# Altium schematic symbol library Schlib1.SchLib: 16 symbols
Pins are listed as number, name and electrical type; pins without a type are passive.

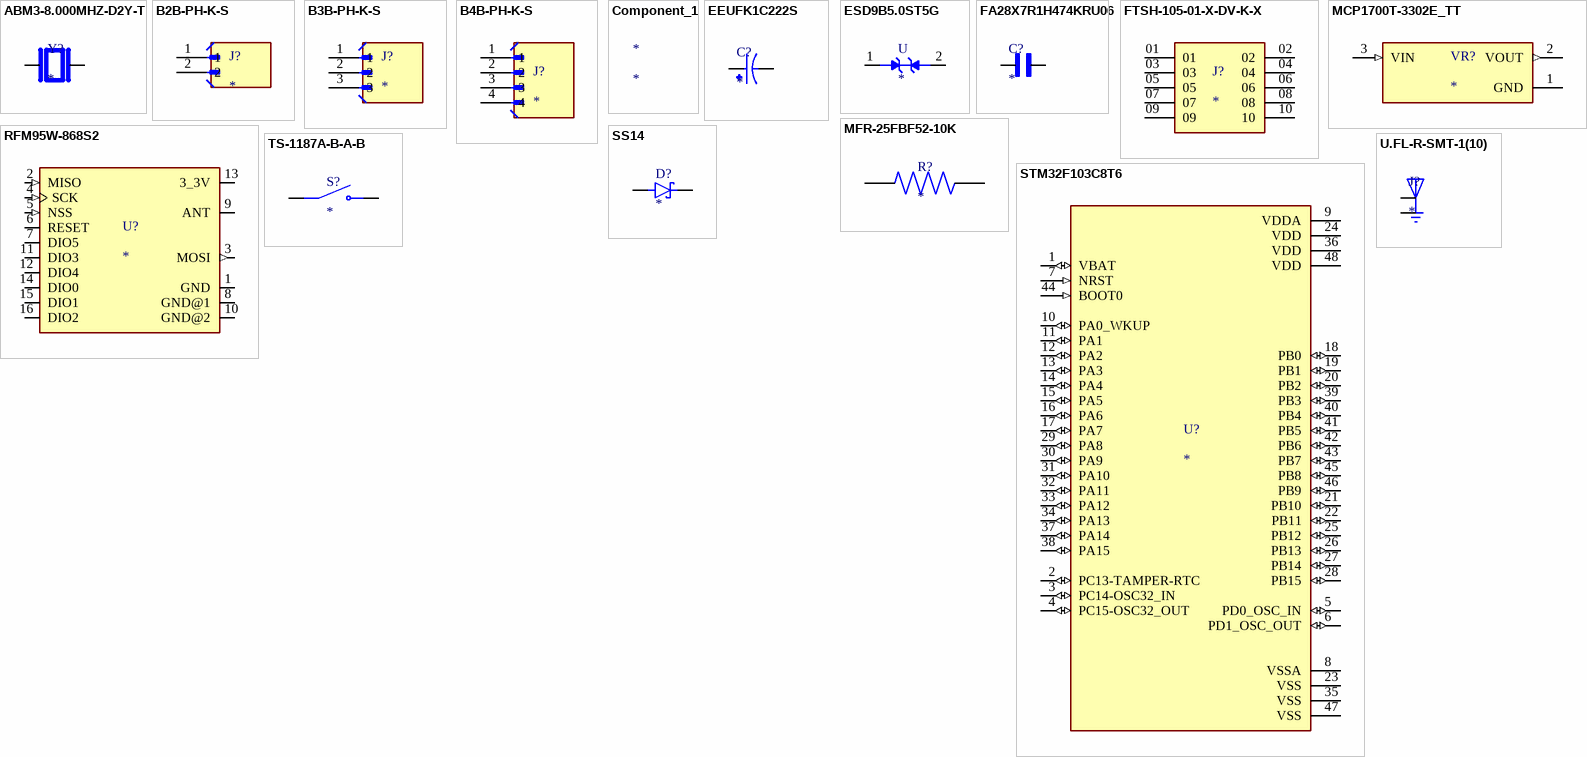
[diagram p0: symbols ABM3-8.000MHZ-D2Y-T to U.FL-R-SMT-1(10)]

## ABM3-8.000MHZ-D2Y-T
designator Y?
8 MHz Â±20ppm Crystal 18pF 140 Ohms 2-SMD, No Lead; MP: ABM3-8.000MHZ-D2Y-T; MF: Abracon; Purchase-URL: https://pricing.snapeda.com/search/part/ABM3-8.000MHZ-D2Y-T/?ref=eda; SnapEDA_Link: https://www.snapeda.com/parts/ABM3-8.000MHZ-D2Y-T/Abracon+LLC/view-part/?ref=snap; Value: *; Package: SMD-2 Abracon; Price: None; Availability: In Stock; Check_prices: https://www.snapeda.com/parts/ABM3-8.000MHZ-D2Y-T/Abracon+LLC/view-part/?ref=eda
footprint XTAL_ABM3-8.000MHZ-D2Y-T
pins: 1, 2

## B2B-PH-K-S
designator J?
Connector Header Through Hole 2 position 0.079 (2.00mm); MF: JST Sales America Inc.; MP: B2B-PH-K-S; SnapEDA_Link: https://www.snapeda.com/parts/B2B-PH-K-S/JST/view-part/?ref=snap; Package: None; Value: *; Check_prices: https://www.snapeda.com/parts/B2B-PH-K-S/JST/view-part/?ref=eda
footprint JST_B2B-PH-K-S
pins: 1, 2

## B3B-PH-K-S
designator J?
MF: {'manufacturer': u'JST Sales America Inc.'}; MP: B3B-PH-K-S; Package: None; Price: None; Value: *; Availability: Unavailable
footprint JST_B3B-PH-K-S
pins: 1, 2, 3

## B4B-PH-K-S
designator J?
MF: {'manufacturer': u'JST Sales America Inc.'}; MP: B4B-PH-K-S; Package: None; Price: None; Value: *; Availability: Unavailable
footprint JST_B4B-PH-K-S
pins: 1, 2, 3, 4

## Component_1
designator *

## EEUFK1C222S
designator C?
Aluminum Electrolytic Capacitors - Radial Leaded; MF: Panasonic; MP: EEU-FK1C222S; Package: RADIAL-2 Panasonic; Value: *; Availability: In Stock; SnapEDA_Link: https://www.snapeda.com/parts/EEU-FK1C222S/Panasonic/view-part/?ref=snap; Price: None; Check_prices: https://www.snapeda.com/parts/EEU-FK1C222S/Panasonic/view-part/?ref=eda
footprint CAPPRD750W80D1600H1500
pins: N, P

## ESD9B5.0ST5G
designator U
Clamp Ipp Tvs Diode Surface Mount SOD-923; MF: ON Semiconductor; MP: ESD9B5.0ST5G; Price: None; Availability: Unavailable; Package: SOD-923 ON Semiconductor; SnapEDA_Link: https://www.snapeda.com/parts/ESD9B5.0ST5G/ON%20Semiconductor/view-part/239806/?ref=snap; Value: *
footprint SODFL1006X40N
pins: 1 A, 2 A1

## FA28X7R1H474KRU06
designator C?
0.47 ÂµF Â±10% 50V Ceramic Capacitor X7R Radial; MF: TDK; MP: FA28X7R1H474KRU06; SnapEDA_Link: https://www.snapeda.com/parts/FA28X7R1H474KRU06/TDK/view-part/?ref=snap; Package: RADIAL-2 TDK; Value: *; Check_prices: https://www.snapeda.com/parts/FA28X7R1H474KRU06/TDK/view-part/?ref=eda
footprint CAPRB500W50L400T250H550
pins: 1, 2

## FTSH-105-01-X-DV-K-X
designator J?
MF: {'manufacturer': u'Samtec Inc.'}; MP: FTSH-105-01-X-DV-K-X; Package: None; Price: None; Value: *; Availability: Unavailable
footprint SAMTEC_FTSH-105-01-X-DV-K-X
pins: 01, 02, 03, 04, 05, 06, 07, 08, 09, 10

## MCP1700T-3302E_TT
designator VR?
Pwr Sply Func,Voltage Regulator,LDO,SOT-23,PD 369.6mW,VO 3.3V,Regline +/-0.75%/V | Microchip Technology Inc. MCP1700T-3302E/TT; SnapEDA_Link: https://www.snapeda.com/parts/MCP1700T-3302E/TT/Microchip/view-part/?ref=snap; Package: SOT-23 Microchip; Value: *; MF: Microchip; MP: MCP1700T-3302E/TT; Check_prices: https://www.snapeda.com/parts/MCP1700T-3302E/TT/Microchip/view-part/?ref=eda
footprint SOT95P237X112-3N
pins: 1 GND (power), 2 VOUT (out), 3 VIN (in)

## MFR-25FBF52-10K
designator R?
10.2 kOhms Â±1% 0.25W, 1/4W Through Hole Resistor Axial - Metal Film; MF: Yageo; MP: MFR-25FBF52-10K; SnapEDA_Link: https://www.snapeda.com/parts/MFR-25FBF52-10K/Yageo/view-part/?ref=snap; Package: RADIAL-2 YAGEO; Value: *; Check_prices: https://www.snapeda.com/parts/MFR-25FBF52-10K/Yageo/view-part/?ref=eda
footprint RESAD1100W55L680D260
pins: 1, 2

## RFM95W-868S2
designator U?
General ISM < 1GHz LoRaâ„¢ Transceiver Module 868MHz Antenna Not Included Surface Mount; MF: RF; MP: RFM95W-868S2; Package: Non Standard RF Solutions; Price: None; Check_prices: https://www.snapeda.com/parts/RFM95W-868S2/RF+Solutions/view-part/?ref=eda; Value: *; SnapEDA_Link: https://www.snapeda.com/parts/RFM95W-868S2/RF+Solutions/view-part/?ref=snap; Availability: In Stock; Purchase-URL: https://pricing.snapeda.com/search?q=RFM95W-868S2&ref=eda
footprint XCVR_RFM95W-868S2
pins: 1 GND (power), 2 MISO (in), 3 MOSI (out), 4 SCK (in), 5 NSS (in), 6 RESET (io), 7 DIO5 (io), 8 GND@1 (power), 9 ANT, 10 GND@2 (power), 11 DIO3 (io), 12 DIO4 (io), 13 3_3V (power), 14 DIO0 (io), 15 DIO1 (io), 16 DIO2 (io)

## SS14
designator D?
1A, 40V, Schottky Rectifier; MF: Taiwan Semiconductor; MP: SS14; SnapEDA_Link: https://www.snapeda.com/parts/SS14/taiwan/view-part/?ref=snap; Package: SMA-2 Taiwan Semiconductor; Value: *; Check_prices: https://www.snapeda.com/parts/SS14/taiwan/view-part/?ref=eda
footprint DIOM4325X250N
pins: A, C K

## STM32F103C8T6
designator U?
ARM® Cortex®-M3 STM32F1 Microcontroller IC 32-Bit 72MHz 64KB (64K x 8) FLASH 48-LQFP (7x7); MF: STMicroelectronics; MP: STM32F103C8T6; SnapEDA_Link: https://www.snapeda.com/parts/STM32F103C8T6/STMicroelectronics/view-part/?ref=snap; Package: LQFP-48 STMicroelectronics; Value: *; Check_prices: https://www.snapeda.com/parts/STM32F103C8T6/STMicroelectronics/view-part/?ref=eda
footprint QFP50P900X900X160-48N
pins: 1 VBAT (io), 2 PC13-TAMPER-RTC (io), 3 PC14-OSC32_IN (io), 4 PC15-OSC32_OUT (io), 5 PD0_OSC_IN (io), 6 PD1_OSC_OUT (io), 7 NRST (in), 8 VSSA (power), 9 VDDA (power), 10 PA0_WKUP (io), 11 PA1 (io), 12 PA2 (io), 13 PA3 (io), 14 PA4 (io), 15 PA5 (io), 16 PA6 (io), 17 PA7 (io), 18 PB0 (io), 19 PB1 (io), 20 PB2 (io), 21 PB10 (io), 22 PB11 (io), 23 VSS (power), 24 VDD (power), 25 PB12 (io), 26 PB13 (io), 27 PB14 (io), 28 PB15 (io), 29 PA8 (io), 30 PA9 (io), 31 PA10 (io), 32 PA11 (io), 33 PA12 (io), 34 PA13 (io), 35 VSS (power), 36 VDD (power), 37 PA14 (io), 38 PA15 (io), 39 PB3 (io), 40 PB4 (io), 41 PB5 (io), 42 PB6 (io), 43 PB7 (io), 44 BOOT0 (in), 45 PB8 (io), 46 PB9 (io), 47 VSS (power), 48 VDD (power)

## TS-1187A-B-A-B
designator S?
SPST 50mA @ 12VDC Top Actuated Round Button 160gf SMD Tactile Switches RoHS; MP: TS-1187A-B-A-B; Value: *; Price: None; Package: None; Availability: Unavailable
footprint SW_TS-1187A-B-A-B
pins: A COM, B COM, C NO, D NO

## U.FL-R-SMT-1(10)
designator J?
U.FL Series 6 Ghz 50 Ohm Ultra-small SMT Coaxial Cable Receptacle; MP: U.FL-R-SMT-1(10); Availability: Unavailable; Value: *; Price: None; Package: None
footprint HRS_U.FL-R-SMT-1(10)
pins: 1 GND, 2 SIG, 3 GND